# Altium footprint library PCB - CONNECTOR - OOTDTY - OOTDTY Y98E7HH800293.PcbLib: 1 footprints
Each footprint in its own frame and in the unit in brackets; x right, y up, seen from the top. Pads: shape width x height; smd on the part's side, far side on the other; paste and mask are expansions set on the pad; w line width, h text height; cw(c..) or ccw(c..) is an arc to the next point about the centre after c.
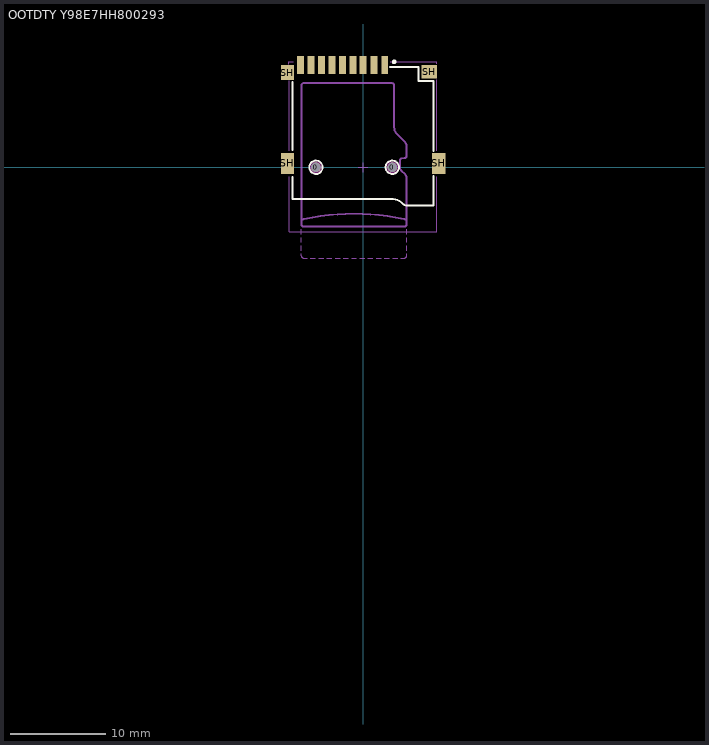
[diagram p0: the footprint, top view; thin cyan lines are the x and y axes]

## OOTDTY Y98E7HH800293 [mm] "Micro SD Card, TF Card, Memory Card Connector, 9-Leads, Body 16.44x15.6 mm, 1.4mm Profile SMT, Push-Push (MEM2055/MEM2075)"
height 1.85
pads (15):
  round 1 hole 1: 0(-4.93,0) 0(3.05,0)
  rect 0.7x1.9 smd: 1(2.25,10.7) 2(1.15,10.7) 3(0,10.7) 4(-1.05,10.7) 5(-2.15,10.7) 6(-3.25,10.7) 7(-4.35,10.7) 8(-5.45,10.7) 9(-6.55,10.7)
  rect 1.4x2.2 smd: SH(-7.9,0.4) SH(7.9,0.4)
  rect 1.4x1.6 smd: SH(-7.9,9.9)
  rect 1.6x1.4 smd: SH(6.9,10)
Top Overlay:
  circle w0.24: c3.25,11.02 r0.12
  circle w0.2: c3.05,0 r0.7
  circle w0.2: c-4.93,0 r0.7
  lines w0.2: -7.375,-1 -7.375,-3.3 2.91,-3.3 cw(c2.91,-5.074) 4.165,-3.82 ccw(c4.6,-3.384) 4.6,-4 7.375,-4 7.375,-0.9 ; -7.375,1.8 -7.375,8.922 ; 2.8,10.5 5.8,10.5 5.8,9 7.375,9 7.375,1.7
Keep-Out Layer:
  circle w0.254: c-4.93,0 r0.5
  circle w0.254: c3.05,0 r0.5
Mechanical 13:
  lines w0.125: -6.45,-9.057 -6.45,-9.246 ccw(c-6.196,-9.246) -6.196,-9.5 -5.85,-9.5 ; -6.45,-8.717 -6.45,-8.197 ; -6.45,-7.857 -6.45,-7.337 ; -6.45,-6.997 -6.45,-6.477 ; -5.51,-9.5 -4.99,-9.5 ; -4.65,-9.5 -4.13,-9.5 ; -3.79,-9.5 -3.27,-9.5 ; -2.93,-9.5 -2.41,-9.5 ; -2.07,-9.5 -1.55,-9.5 ; -1.21,-9.5 -0.69,-9.5 ; -0.35,-9.5 0.17,-9.5 ; 0.51,-9.5 1.03,-9.5 ; 1.37,-9.5 1.89,-9.5 ; 2.23,-9.5 2.75,-9.5 ; 3.09,-9.5 3.61,-9.5 ; 3.95,-9.5 4.296,-9.5 ccw(c4.296,-9.246) 4.55,-9.246 4.55,-9.057 ; 4.55,-8.717 4.55,-8.197 ; 4.55,-7.857 4.55,-7.337 ; 4.55,-6.997 4.55,-6.477
  lines w0.2: -6.437,-5.553 cw(c-6.027,-5.964) -6.148,-5.396 cw(c-0.95,-29.85) 4.248,-5.396 cw(c4.127,-5.964) 4.537,-5.553 ; 3.85,-0.022 3.85,0.696 cw(c4.104,0.696) 4.104,0.95 4.296,0.95 ccw(c4.296,1.204) 4.55,1.204 4.55,2.24 ccw(c4.042,2.24) 4.401,2.599 3.55,3.45 cw(c4.274,4.174) 3.25,4.174 3.25,8.546 ccw(c2.996,8.546) 2.996,8.8 -6.196,8.8 ccw(c-6.196,8.546) -6.45,8.546 -6.45,-5.946 ccw(c-6.196,-5.946) -6.196,-6.2 4.296,-6.2 ccw(c4.296,-5.946) 4.55,-5.946 4.55,-4 4.55,-1.11 ; 3.85,0.01 ccw(c4.358,0.01) 3.999,-0.349 4.401,-0.751 cw(c4.042,-1.11) 4.55,-1.11 ; 4.55,-1.11 ccw(c4.55,-1.11) 4.55,-1.11
Mechanical 15:
  lines w0.1: -7.75,10.77 -7.75,11.02 -7.28,11.02 ; -7.7,-1 -7.7,-6.731 7.7,-6.731 7.7,-0.98 ; -7.7,1.72 -7.7,9.03 ; -0.5,0 0.5,0 ; 0,-0.5 0,0.5 ; 2.82,11.02 7.7,11.02 7.7,10.84 ; 7.7,1.74 7.7,9.16
Drill Drawing:
  circle w0.254: c3.05,0 r0.5
  circle w0.254: c-4.93,0 r0.5
3D body "MicroSD.step": height 1.9, standoff -0.55, extent -8.001,-6.261 7.999,11.27
3D body "User Library-MEM2055-00-190-01-A_revG.STEP": height 1.9, standoff -0.55, extent -7.952,-3.978 8.048,11.272